# Altium footprint library Capacitor_THT.PcbLib: 378 footprints (part 23 of 24)
Each footprint in its own frame and in the unit in brackets; x right, y up, seen from the top. Pads: shape width x height; smd on the part's side, far side on the other; paste and mask are expansions set on the pad; w line width, h text height; cw(c..) or ccw(c..) is an arc to the next point about the centre after c.
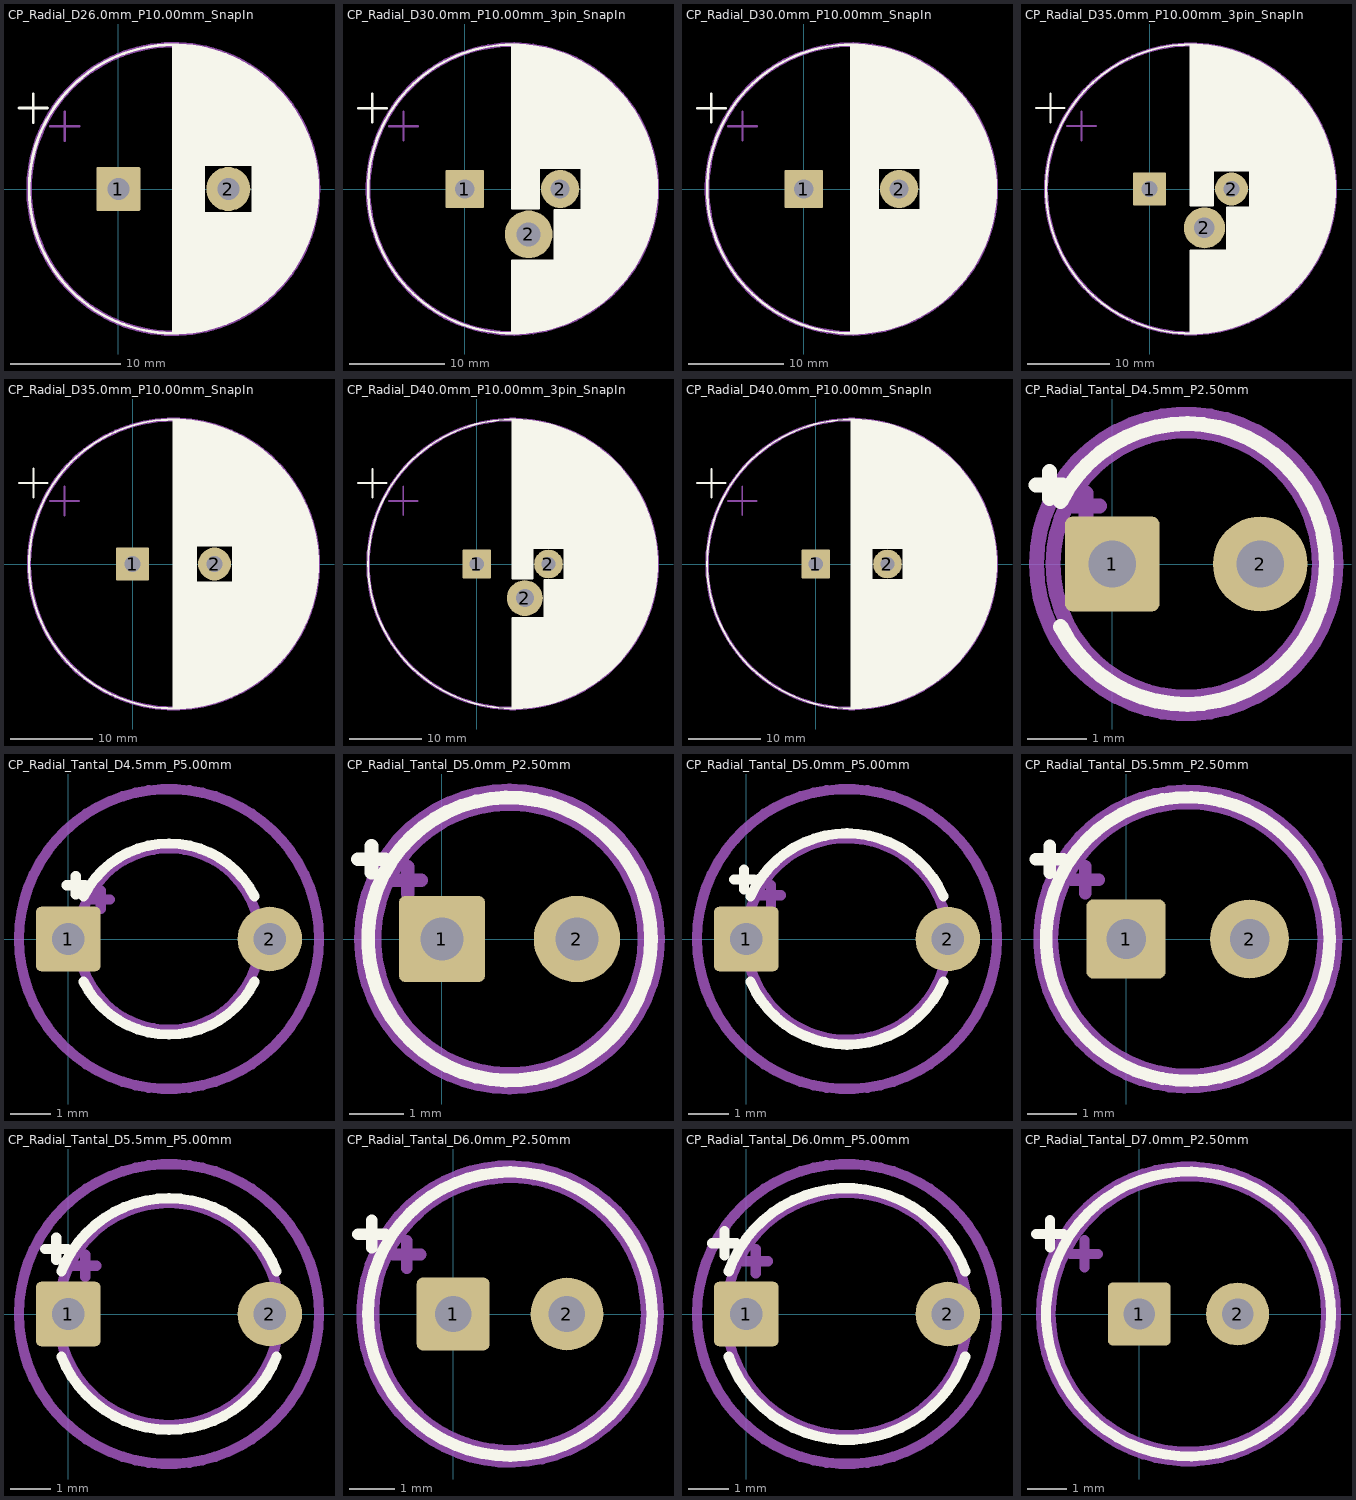
[diagram p22: the footprints below, top view; thin cyan lines are the x and y axes]

## CP_Radial_D26.0mm_P10.00mm_SnapIn [mm]
pads (2):
  rrect6% 4x4 hole 2: 1(0,0)
  round 4 hole 2: 2(10,0)
F.SilkS:
  drawing of 443 lines, arcs and shapes, not listed
Top Assembly:
  circle w0.254: c5,0 r13
  lines w0.254: -6.186,5.707 -3.586,5.707 ; -4.886,4.407 -4.886,7.007
  text "'.Designator'" at 0.953,-0.84 h1
Top Courtyard:
  circle w0.254: c5,0 r13.25
Top Designator:
  text ".Designator" at -3.012,-0.508 h1.52

## CP_Radial_D30.0mm_P10.00mm_3pin_SnapIn [mm]
pads (3):
  rrect6% 4x4 hole 2: 1(0,0)
  round 5 hole 2.5: 2(6.7,-4.75)
  round 4 hole 2: 2(10,0)
F.SilkS:
  drawing of 563 lines, arcs and shapes, not listed
Top Assembly:
  circle w0.254: c5,0 r15
  lines w0.254: -7.91,6.588 -4.91,6.588 ; -6.41,5.088 -6.41,8.087
  text "'.Designator'" at 0.953,-0.84 h1
Top Courtyard:
  circle w0.254: c5,0 r15.25
Top Designator:
  text ".Designator" at -3.082,-0.508 h1.52

## CP_Radial_D30.0mm_P10.00mm_SnapIn [mm]
pads (2):
  rrect6% 4x4 hole 2: 1(0,0)
  round 4 hole 2: 2(10,0)
F.SilkS:
  drawing of 493 lines, arcs and shapes, not listed
Top Assembly:
  circle w0.254: c5,0 r15
  lines w0.254: -7.91,6.588 -4.91,6.588 ; -6.41,5.088 -6.41,8.087
  text "'.Designator'" at 0.953,-0.84 h1
Top Courtyard:
  circle w0.254: c5,0 r15.25
Top Designator:
  text ".Designator" at -3.082,-0.508 h1.52

## CP_Radial_D35.0mm_P10.00mm_3pin_SnapIn [mm]
pads (3):
  rrect6% 4x4 hole 2: 1(0,0)
  round 5 hole 2.5: 2(6.7,-4.75)
  round 4 hole 2: 2(10,0)
F.SilkS:
  drawing of 625 lines, arcs and shapes, not listed
Top Assembly:
  circle w0.254: c5,0 r17.5
  lines w0.254: -10.065,7.688 -6.565,7.688 ; -8.315,5.937 -8.315,9.437
  text "'.Designator'" at 0.953,-0.84 h1
Top Courtyard:
  circle w0.254: c5,0 r17.75
Top Designator:
  text ".Designator" at -3.17,-0.508 h1.52

## CP_Radial_D35.0mm_P10.00mm_SnapIn [mm]
pads (2):
  rrect6% 4x4 hole 2: 1(0,0)
  round 4 hole 2: 2(10,0)
F.SilkS:
  drawing of 555 lines, arcs and shapes, not listed
Top Assembly:
  circle w0.254: c5,0 r17.5
  lines w0.254: -10.065,7.688 -6.565,7.688 ; -8.315,5.937 -8.315,9.437
  text "'.Designator'" at 0.953,-0.84 h1
Top Courtyard:
  circle w0.254: c5,0 r17.75
Top Designator:
  text ".Designator" at -3.17,-0.508 h1.52

## CP_Radial_D40.0mm_P10.00mm_3pin_SnapIn [mm] "CP_Radial_D40.0mm_P10.00mm_3pin_SnapIn"
pads (3):
  rrect6% 4x4 hole 2: 1(0,0)
  round 5 hole 2.5: 2(6.7,-4.75)
  round 4 hole 2: 2(10,0)
F.SilkS:
  drawing of 688 lines, arcs and shapes, not listed
Top Assembly:
  circle w0.254: c5,0 r20
  lines w0.254: -12.22,8.788 -8.22,8.788 ; -10.22,6.787 -10.22,10.787
  text "'.Designator'" at 0.953,-0.84 h1
Top Courtyard:
  circle w0.254: c5,0 r20.25
Top Designator:
  text ".Designator" at -3.257,-0.508 h1.52

## CP_Radial_D40.0mm_P10.00mm_SnapIn [mm]
pads (2):
  rrect6% 4x4 hole 2: 1(0,0)
  round 4 hole 2: 2(10,0)
F.SilkS:
  drawing of 618 lines, arcs and shapes, not listed
Top Assembly:
  circle w0.254: c5,0 r20
  lines w0.254: -12.22,8.788 -8.22,8.788 ; -10.22,6.787 -10.22,10.787
  text "'.Designator'" at 0.953,-0.84 h1
Top Courtyard:
  circle w0.254: c5,0 r20.25
Top Designator:
  text ".Designator" at -3.257,-0.508 h1.52

## CP_Radial_Tantal_D4.5mm_P2.50mm [mm]
pads (2):
  rrect16% 1.6x1.6 hole 0.8: 1(0,0)
  round 1.6 hole 0.8: 2(2.5,0)
F.SilkS:
  lines w0.254: -1.287,1.335 -0.837,1.335 ; -1.062,1.11 -1.062,1.56 ; -0.87,-1.06 ccw(c1.25,0) -0.87,1.06
Top Assembly:
  circle w0.254: c1.25,0 r2.25
  lines w0.254: -0.668,0.978 -0.218,0.978 ; -0.443,0.753 -0.443,1.202
  text "'.Designator'" at -2.392,-0.756 h0.9
Top Courtyard:
  circle w0.254: c1.25,0 r2.53
Top Designator:
  text ".Designator" at -6.503,-0.508 h1.52

## CP_Radial_Tantal_D4.5mm_P5.00mm [mm]
pads (2):
  rrect16% 1.6x1.6 hole 0.8: 1(0,0)
  round 1.6 hole 0.8: 2(5,0)
F.SilkS:
  lines w0.254: -0.037,1.335 0.413,1.335 ; 0.188,1.11 0.188,1.56 ; 0.38,-1.06 ccw(c2.5,0) 4.62,-1.06 ; 0.38,1.06 cw(c2.5,0) 4.62,1.06
Top Assembly:
  circle w0.254: c2.5,0 r2.25
  lines w0.254: 0.582,0.978 1.032,0.978 ; 0.807,0.753 0.807,1.202
  text "'.Designator'" at -1.142,-0.756 h0.9
Top Courtyard:
  circle w0.254: c2.5,0 r3.72
Top Designator:
  text ".Designator" at -5.118,-0.508 h1.52

## CP_Radial_Tantal_D5.0mm_P2.50mm [mm]
pads (2):
  rrect16% 1.6x1.6 hole 0.8: 1(0,0)
  round 1.6 hole 0.8: 2(2.5,0)
F.SilkS:
  circle w0.254: c1.25,0 r2.62
  lines w0.254: -1.555,1.475 -1.055,1.475 ; -1.305,1.225 -1.305,1.725
Top Assembly:
  circle w0.254: c1.25,0 r2.5
  lines w0.254: -0.884,1.088 -0.384,1.088 ; -0.634,0.837 -0.634,1.338
  text "'.Designator'" at -2.797,-0.84 h1
Top Courtyard:
  circle w0.254: c1.25,0 r2.75
Top Designator:
  text ".Designator" at -6.518,-0.508 h1.52

## CP_Radial_Tantal_D5.0mm_P5.00mm [mm]
pads (2):
  rrect16% 1.6x1.6 hole 0.8: 1(0,0)
  round 1.6 hole 0.8: 2(5,0)
F.SilkS:
  lines w0.254: -0.305,1.475 0.195,1.475 ; -0.055,1.225 -0.055,1.725 ; 0.104,-1.06 ccw(c2.5,0) 4.896,-1.06 ; 0.104,1.06 cw(c2.5,0) 4.896,1.06
Top Assembly:
  circle w0.254: c2.5,0 r2.5
  lines w0.254: 0.366,1.088 0.866,1.088 ; 0.616,0.837 0.616,1.338
  text "'.Designator'" at -1.547,-0.84 h1
Top Courtyard:
  circle w0.254: c2.5,0 r3.72
Top Designator:
  text ".Designator" at -5.268,-0.508 h1.52

## CP_Radial_Tantal_D5.5mm_P2.50mm [mm]
pads (2):
  rrect16% 1.6x1.6 hole 0.8: 1(0,0)
  round 1.6 hole 0.8: 2(2.5,0)
F.SilkS:
  circle w0.254: c1.25,0 r2.87
  lines w0.254: -1.822,1.615 -1.272,1.615 ; -1.547,1.34 -1.547,1.89
Top Assembly:
  circle w0.254: c1.25,0 r2.75
  lines w0.254: -1.099,1.198 -0.549,1.198 ; -0.824,0.923 -0.824,1.472
  text "'.Designator'" at -2.797,-0.84 h1
Top Courtyard:
  circle w0.254: c1.25,0 r3
Top Designator:
  text ".Designator" at -6.518,-0.508 h1.52

## CP_Radial_Tantal_D5.5mm_P5.00mm [mm]
pads (2):
  rrect16% 1.6x1.6 hole 0.8: 1(0,0)
  round 1.6 hole 0.8: 2(5,0)
F.SilkS:
  lines w0.254: -0.572,1.615 -0.022,1.615 ; -0.297,1.34 -0.297,1.89 ; -0.167,-1.06 ccw(c2.5,0) 5.167,-1.06 ; -0.167,1.06 cw(c2.5,0) 5.167,1.06
Top Assembly:
  circle w0.254: c2.5,0 r2.75
  lines w0.254: 0.151,1.198 0.701,1.198 ; 0.426,0.923 0.426,1.472
  text "'.Designator'" at -1.547,-0.84 h1
Top Courtyard:
  circle w0.254: c2.5,0 r3.72
Top Designator:
  text ".Designator" at -5.268,-0.508 h1.52

## CP_Radial_Tantal_D6.0mm_P2.50mm [mm]
pads (2):
  rrect16% 1.6x1.6 hole 0.8: 1(0,0)
  round 1.6 hole 0.8: 2(2.5,0)
F.SilkS:
  circle w0.254: c1.25,0 r3.12
  lines w0.254: -2.09,1.755 -1.49,1.755 ; -1.79,1.455 -1.79,2.055
Top Assembly:
  circle w0.254: c1.25,0 r3
  lines w0.254: -1.315,1.308 -0.715,1.308 ; -1.015,1.008 -1.015,1.607
  text "'.Designator'" at -2.797,-0.84 h1
Top Courtyard:
  circle w0.254: c1.25,0 r3.25
Top Designator:
  text ".Designator" at -6.518,-0.508 h1.52

## CP_Radial_Tantal_D6.0mm_P5.00mm [mm]
pads (2):
  rrect16% 1.6x1.6 hole 0.8: 1(0,0)
  round 1.6 hole 0.8: 2(5,0)
F.SilkS:
  lines w0.254: -0.84,1.755 -0.24,1.755 ; -0.54,1.455 -0.54,2.055 ; -0.434,-1.06 ccw(c2.5,0) 5.434,-1.06 ; -0.434,1.06 cw(c2.5,0) 5.434,1.06
Top Assembly:
  circle w0.254: c2.5,0 r3
  lines w0.254: -0.065,1.308 0.535,1.308 ; 0.235,1.008 0.235,1.607
  text "'.Designator'" at -1.547,-0.84 h1
Top Courtyard:
  circle w0.254: c2.5,0 r3.72
Top Designator:
  text ".Designator" at -5.268,-0.508 h1.52

## CP_Radial_Tantal_D7.0mm_P2.50mm [mm]
pads (2):
  rrect16% 1.6x1.6 hole 0.8: 1(0,0)
  round 1.6 hole 0.8: 2(2.5,0)
F.SilkS:
  circle w0.254: c1.25,0 r3.62
  lines w0.254: -2.625,2.035 -1.925,2.035 ; -2.275,1.685 -2.275,2.385
Top Assembly:
  circle w0.254: c1.25,0 r3.5
  lines w0.254: -1.746,1.528 -1.046,1.528 ; -1.396,1.178 -1.396,1.877
  text "'.Designator'" at -2.797,-0.84 h1
Top Courtyard:
  circle w0.254: c1.25,0 r3.75
Top Designator:
  text ".Designator" at -6.518,-0.508 h1.52